# Altium schematic symbol library U_TL431.Schlib: 1 symbol
Pins are listed as number, name and electrical type; pins without a type are passive.

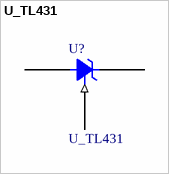
[diagram p0: symbol U_TL431]

## U_TL431
designator U?
pins: 1 C, 2 REF (in), 3 A